# Altium schematic symbol library JST_XH_Male_2.5mm.SchLib: 5 symbols
Pins are listed as number, name and electrical type; pins without a type are passive.

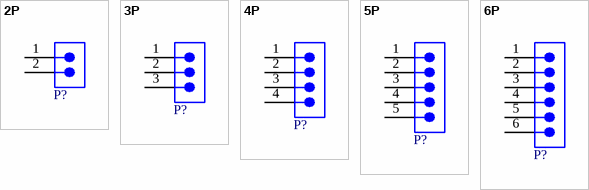
[diagram p0: symbols 2P to 6P]

## 2P
designator P?, comment 61300211121  (value not drawn)
CONNECTOR HEADER, XH SERIES, 2 POSITION, 2.50MM, Press-Fit Solder, Detent Lock, Natural; Manufacturer: Wurth Elektronik; Match Code: WR-PHD; Contact Resistance: 20mOhm; Gender: Pin Header; Pitch: 2.54mm; Rated Current: 3A; Working Voltage: 250V; Withstanding Voltage: 500V; Connector Type: Male Pin; Insulation Resistance: 1GΩ; Number of Contacts: 2; Wire/Cable Gauge: 22AWG; Manufacturer Part Number: 61300211121; Category: Board-to-Board Connectors; ComponentLink1Description: Website Link; ComponentLink1URL: https://www.we-online.com/redexpert/article/61300211121?ad; ComponentLink2Description: Datasheet Link; ComponentLink2URL: https://www.we-online.com/redexpert/spec/61300211121?ad; Mount: Through Hole; Operating Temperature Max: 105°C; Operating Temperature Min: -40°C; Packaging: Bag; Number of Pins: 2; Number of Rows: 1; Orientation: Vertical; Supplier: RS; Supplier Part Number: 8201554; RoHS: Compliant; Stock: 995; Pricing: 5=0,156, 250=0,074, 500=0,07, 1250=0,064, 2500=0,062 (EUR); China RoHS: Compliant; Color: Natural; Contact Gender: Male; Contact Material: Copper, Tin; Contact Plating: Tin; Current Rating: 3A; Depth: 5.75mm; Fastening Type: Detent; Height: 7mm; Housing Color: White; Housing Material: Polyamide; Lead Free: Lead Free; Lead Pitch: 2.5mm; Length: 7.4mm; Lifecycle Status: Production; Max Current Rating: 3A; Max Operating Temperature: 85°C; Max Voltage Rating (AC): 250V; Max Voltage Rating (DC): 250V; Min Operating Temperature: -25°C; Mounting Technology: Through Hole; Pins: 2; Number of Positions: 2; REACH SVHC: Yes; Terminal Pitch: 2.5mm; Termination: Solder; Voltage Rating: 250V; Voltage Rating (AC): 250V; Weight: 28.349523g; Width: 6.35mm; ComponentLink3URL: https://datasheet.octopart.com:443/B2B-XH-A%28LF%29%28SN%29-JST-datasheet-12510042.pdf?src-supplier=Newark; ComponentLink3Description: https://datasheet.octopart.com:443/B2B-XH-A%28LF%29%28SN%29-JST-datasheet-12510042.pdf?src-supplier=Newark; ComponentLink4URL: https://datasheet.octopart.com:443/B2B-XH-A-%28LF%29%28SN%29-JST-datasheet-41261050.pdf?src-supplier=Newark; ComponentLink4Description: https://datasheet.octopart.com:443/B2B-XH-A-%28LF%29%28SN%29-JST-datasheet-41261050.pdf?src-supplier=Newark; ComponentLink5URL: https://datasheet.octopart.com:443/B2B-XH-A%28LF%29%28SN%29-JST-datasheet-63094.pdf?src-supplier=Upverter; ComponentLink5Description: https://datasheet.octopart.com:443/B2B-XH-A%28LF%29%28SN%29-JST-datasheet-63094.pdf?src-supplier=Upverter; ComponentLink6URL: https://datasheet.octopart.com:443/B2B-XH-A%28LF%29%28SN%29-JST-datasheet-8325564.pdf?src-supplier=Burklin+Elektronik; ComponentLink6Description: https://datasheet.octopart.com:443/B2B-XH-A%28LF%29%28SN%29-JST-datasheet-8325564.pdf?src-supplier=Burklin+Elektronik; ComponentLink7URL: https://datasheet.octopart.com:443/B2B-XH-A%28LF%29%28SN%29-JST-datasheet-138896056.pdf?src-supplier=IHS; ComponentLink7Description: https://datasheet.octopart.com:443/B2B-XH-A%28LF%29%28SN%29-JST-datasheet-138896056.pdf?src-supplier=IHS; ComponentLink8URL: https://datasheet.octopart.com:443/B2B-XH-A-%28LF%29%28SN%29-JST-datasheet-62336360.pdf?src-supplier=element14+APAC; ComponentLink8Description: https://datasheet.octopart.com:443/B2B-XH-A-%28LF%29%28SN%29-JST-datasheet-62336360.pdf?src-supplier=element14+APAC; ComponentLink9URL: https://datasheet.octopart.com:443/B2B-XH-A%28LF%29%28SN%29-JST-datasheet-10026044.pdf?src-supplier=TME; ComponentLink9Description: https://datasheet.octopart.com:443/B2B-XH-A%28LF%29%28SN%29-JST-datasheet-10026044.pdf?src-supplier=TME; ComponentLink10URL: https://datasheet.octopart.com:443/B2B-XH-A%28LF%29%28SN%29-JST-datasheet-140264791.pdf?src-supplier=LKR; ComponentLink10Description: https://datasheet.octopart.com:443/B2B-XH-A%28LF%29%28SN%29-JST-datasheet-140264791.pdf?src-supplier=LKR; ComponentLink11URL: https://datasheet.octopart.com:443/B2B-XH-A%28LF%29%28SN%29-JST-datasheet-157850277.pdf?src-supplier=Amar+Radio+Corporation; ComponentLink11Description: https://datasheet.octopart.com:443/B2B-XH-A%28LF%29%28SN%29-JST-datasheet-157850277.pdf?src-supplier=Amar+Radio+Corporation
footprint JST B2B-XH-A(LF)(SN)
pins: 1, 2

## 3P
designator P?, comment 61300311121  (value not drawn)
Connector Header, XH Series, 3 Position, 2.50mm, Through Hole, Press-Fit, Solder, Natural; Manufacturer: Wurth Elektronik; Match Code: WR-PHD; Contact Resistance: 20mOhm; Gender: Pin Header; Pitch: 2.54mm; Rated Current: 3A; Working Voltage: 250V; Withstanding Voltage: 500V; Connector Type: Male Pin; Insulation Resistance: 1GΩ; Number of Contacts: 3; Wire/Cable Gauge: 22AWG; Manufacturer Part Number: 61300311121; Category: Board-to-Board Connectors; ComponentLink1Description: Website Link; ComponentLink1URL: https://www.we-online.com/redexpert/article/61300311121?ad; ComponentLink2Description: Datasheet Link; ComponentLink2URL: https://www.we-online.com/redexpert/spec/61300311121?ad; Mount: Through Hole; Operating Temperature Max: 105°C; Operating Temperature Min: -40°C; Packaging: Bag; Number of Pins: 3; Number of Rows: 1; Orientation: Vertical; Supplier: RS; Supplier Part Number: 1724888; RoHS: Compliant; Stock: 5000; Pricing: 1000=0,079 (EUR); Color: Natural; Contact Gender: Male; Contact Material: Brass; Contact Plating: Tin; Current Rating: 3A; Depth: 5.75mm; Fastening Type: Detent; Height: 7mm; Housing Color: White; Housing Material: Polyamide; Lead Free: Lead Free; Lead Pitch: 2.5mm; Length: 6.35mm; Lifecycle Status: Production; Max Current Rating: 3A; Max Operating Temperature: 85°C; Max Voltage Rating (AC): 250V; Max Voltage Rating (DC): 250V; Min Operating Temperature: -25°C; Mounting Technology: Through Hole; Pins: 3; Number of Positions: 3; REACH SVHC: Yes; Terminal Pitch: 2.5mm; Termination: Press-Fit; Voltage Rating: 250V; Voltage Rating (AC): 250V; Weight: 28.349523g; Width: 6.35mm; ComponentLink3URL: https://datasheet.octopart.com:443/B3B-XH-A%28LF%29%28SN%29-JST-datasheet-140264791.pdf?src-supplier=LKR; ComponentLink3Description: https://datasheet.octopart.com:443/B3B-XH-A%28LF%29%28SN%29-JST-datasheet-140264791.pdf?src-supplier=LKR; ComponentLink4URL: https://datasheet.octopart.com:443/B3B-XH-A%28LF%29%28SN%29-JST-datasheet-8325564.pdf?src-supplier=Burklin+Elektronik; ComponentLink4Description: https://datasheet.octopart.com:443/B3B-XH-A%28LF%29%28SN%29-JST-datasheet-8325564.pdf?src-supplier=Burklin+Elektronik; ComponentLink5URL: https://datasheet.octopart.com:443/B3B-XH-A%28LF%29%28SN%29-JST-datasheet-12510042.pdf?src-supplier=Newark; ComponentLink5Description: https://datasheet.octopart.com:443/B3B-XH-A%28LF%29%28SN%29-JST-datasheet-12510042.pdf?src-supplier=Newark; ComponentLink6URL: https://datasheet.octopart.com:443/B3B-XH-A-%28LF%29%28SN%29-JST-datasheet-41261050.pdf?src-supplier=Newark; ComponentLink6Description: https://datasheet.octopart.com:443/B3B-XH-A-%28LF%29%28SN%29-JST-datasheet-41261050.pdf?src-supplier=Newark; ComponentLink7URL: https://datasheet.octopart.com:443/B3B-XH-A%28LF%29%28SN%29-JST-datasheet-157850277.pdf?src-supplier=Amar+Radio+Corporation; ComponentLink7Description: https://datasheet.octopart.com:443/B3B-XH-A%28LF%29%28SN%29-JST-datasheet-157850277.pdf?src-supplier=Amar+Radio+Corporation; ComponentLink8URL: https://datasheet.octopart.com:443/B3B-XH-A%28LF%29%28SN%29-JST-datasheet-138896056.pdf?src-supplier=IHS; ComponentLink8Description: https://datasheet.octopart.com:443/B3B-XH-A%28LF%29%28SN%29-JST-datasheet-138896056.pdf?src-supplier=IHS; ComponentLink9URL: https://datasheet.octopart.com:443/B3B-XH-A%28LF%29%28SN%29-JST-datasheet-63094.pdf?src-supplier=element14+APAC; ComponentLink9Description: https://datasheet.octopart.com:443/B3B-XH-A%28LF%29%28SN%29-JST-datasheet-63094.pdf?src-supplier=element14+APAC; ComponentLink10URL: https://datasheet.octopart.com:443/B3B-XH-A-%28LF%29%28SN%29-JST-datasheet-62330224.pdf?src-supplier=element14+APAC; ComponentLink10Description: https://datasheet.octopart.com:443/B3B-XH-A-%28LF%29%28SN%29-JST-datasheet-62330224.pdf?src-supplier=element14+APAC; ComponentLink11URL: https://datasheet.octopart.com:443/B3B-XH-A-%28LF%29%28SN%29-JST-datasheet-10026044.pdf?src-supplier=TME; ComponentLink11Description: https://datasheet.octopart.com:443/B3B-XH-A-%28LF%29%28SN%29-JST-datasheet-10026044.pdf?src-supplier=TME
footprint JST B3B-XH-A(LF)(SN)
pins: 1, 2, 3

## 4P
designator P?, comment 61300411121  (value not drawn)
Conn Shrouded Header (4 Sides) HDR 4 POS 2.5mm Solder ST Top Entry Thru-Hole Box; Manufacturer: Wurth Elektronik; Match Code: WR-PHD; Contact Resistance: 20mOhm; Gender: Pin Header; Pitch: 2.54mm; Rated Current: 3A; Working Voltage: 250V; Withstanding Voltage: 500V; Connector Type: Male Pin; Insulation Resistance: 1GΩ; Number of Contacts: 4; Wire/Cable Gauge: 22AWG; Manufacturer Part Number: 61300411121; Category: Board-to-Board Connectors; ComponentLink1Description: Website Link; ComponentLink1URL: https://www.we-online.com/redexpert/article/61300411121?ad; ComponentLink2Description: Datasheet Link; ComponentLink2URL: https://www.we-online.com/redexpert/spec/61300411121?ad; Mount: Through Hole; Operating Temperature Max: 105°C; Operating Temperature Min: -40°C; Packaging: Bag; Number of Pins: 4; Number of Rows: 1; Orientation: Vertical; Supplier: RS; Supplier Part Number: 8201551; RoHS: Compliant; Stock: 4260; Pricing: 5=0,212, 125=0,076, 500=0,072, 1250=0,068, 2500=0,064 (EUR); Color: Natural; Contact Gender: Male; Contact Material: Brass; Contact Plating: Tin; Current Rating: 3A; Depth: 5.75mm; Height: 7mm; Housing Color: White; Housing Material: Polyamide; Lead Free: Lead Free; Lead Pitch: 2.5mm; Length: 12.4mm; Lifecycle Status: Production; Material: Polyamide; Max Current Rating: 3A; Max Operating Temperature: 85°C; Max Voltage Rating (AC): 250V; Max Voltage Rating (DC): 250V; Min Operating Temperature: -25°C; Mounting Technology: Through Hole; Pins: 4; Number of Positions: 4; REACH SVHC: Yes; Terminal Pitch: 2.5mm; Termination: Press-Fit; Voltage Rating: 250V; Voltage Rating (AC): 250V; Weight: 28.349523g; Width: 12.7mm; ComponentLink3URL: https://datasheet.octopart.com:443/B4B-XH-A%28LF%29%28SN%29-JST-datasheet-12510042.pdf?src-supplier=Upverter; ComponentLink3Description: https://datasheet.octopart.com:443/B4B-XH-A%28LF%29%28SN%29-JST-datasheet-12510042.pdf?src-supplier=Upverter; ComponentLink4URL: https://datasheet.octopart.com:443/B4B-XH-A%28LF%29%28SN%29-JST-datasheet-8325564.pdf?src-supplier=Upverter; ComponentLink4Description: https://datasheet.octopart.com:443/B4B-XH-A%28LF%29%28SN%29-JST-datasheet-8325564.pdf?src-supplier=Upverter; ComponentLink5URL: https://datasheet.octopart.com:443/B4B-XH-A%28LF%29%28SN%29-JST-datasheet-138896056.pdf?src-supplier=IHS; ComponentLink5Description: https://datasheet.octopart.com:443/B4B-XH-A%28LF%29%28SN%29-JST-datasheet-138896056.pdf?src-supplier=IHS; ComponentLink6URL: https://datasheet.octopart.com:443/B4B-XH-A%28LF%29%28SN%29-JST-datasheet-140264791.pdf?src-supplier=LKR; ComponentLink6Description: https://datasheet.octopart.com:443/B4B-XH-A%28LF%29%28SN%29-JST-datasheet-140264791.pdf?src-supplier=LKR; ComponentLink7URL: https://datasheet.octopart.com:443/B4B-XH-A%28LF%29%28SN%29-JST-datasheet-10026044.pdf?src-supplier=Future+Electronics; ComponentLink7Description: https://datasheet.octopart.com:443/B4B-XH-A%28LF%29%28SN%29-JST-datasheet-10026044.pdf?src-supplier=Future+Electronics; ComponentLink8URL: https://datasheet.octopart.com:443/B4B-XH-A%28LF%29%28SN%29-JST-datasheet-63094.pdf?src-supplier=Future+Electronics; ComponentLink8Description: https://datasheet.octopart.com:443/B4B-XH-A%28LF%29%28SN%29-JST-datasheet-63094.pdf?src-supplier=Future+Electronics
pins: 1, 2, 3, 4

## 5P
designator P?, comment 61300511121  (value not drawn)
Connector Header, XH Series, 5 Position, 2.50mm, Through Hole, Press-Fit, Solder, Natural; Manufacturer: Wurth Elektronik; Match Code: WR-PHD; Contact Resistance: 20mOhm; Gender: Pin Header; Pitch: 2.54mm; Rated Current: 3A; Working Voltage: 250V; Withstanding Voltage: 500V; Connector Type: Male Pin; Insulation Resistance: 1GΩ; Number of Contacts: 5; Wire/Cable Gauge: 22AWG; Manufacturer Part Number: 61300511121; Category: Board-to-Board Connectors; ComponentLink1Description: Website Link; ComponentLink1URL: https://www.we-online.com/redexpert/article/61300511121?ad; ComponentLink2Description: Datasheet Link; ComponentLink2URL: https://www.we-online.com/redexpert/spec/61300511121?ad; Mount: Through Hole; Operating Temperature Max: 105°C; Operating Temperature Min: -40°C; Packaging: Bag; Number of Pins: 5; Number of Rows: 1; Orientation: Vertical; Supplier: RS; Supplier Part Number: 8201560P; RoHS: Compliant; Stock: 5005; Pricing: 125=0,098, 500=0,092, 1250=0,088, 2500=0,08 (EUR); Color: Natural; Contact Gender: Male; Contact Material: Brass; Contact Plating: Copper, Lead, Tin; Current Rating: 3A; Depth: 5.75mm; Fastening Type: Detent; Height: 13.208mm; Housing Color: White; Housing Material: Polyamide; Lead Free: Lead Free; Lead Pitch: 2.5mm; Length: 14.9mm; Lifecycle Status: Production; Max Current Rating: 3A; Max Operating Temperature: 85°C; Max Voltage Rating (AC): 250V; Min Operating Temperature: -25°C; Mounting Technology: Through Hole; Pins: 5; Number of Positions: 5; REACH SVHC: Yes; Terminal Pitch: 2.5mm; Termination: Press-Fit, Solder; Voltage Rating: 250V; Voltage Rating (AC): 250V; Weight: 28.349523g; Width: 13.208mm; ComponentLink3URL: https://datasheet.octopart.com:443/B5B-XH-A%28LF%29%28SN%29-JST-datasheet-63094.pdf?src-supplier=Upverter; ComponentLink3Description: https://datasheet.octopart.com:443/B5B-XH-A%28LF%29%28SN%29-JST-datasheet-63094.pdf?src-supplier=Upverter; ComponentLink4URL: https://datasheet.octopart.com:443/B5B-XH-A%28LF%29%28SN%29-JST-datasheet-138896056.pdf?src-supplier=IHS; ComponentLink4Description: https://datasheet.octopart.com:443/B5B-XH-A%28LF%29%28SN%29-JST-datasheet-138896056.pdf?src-supplier=IHS; ComponentLink5URL: https://datasheet.octopart.com:443/B5B-XH-A%28LF%29%28SN%29-JST-datasheet-140264791.pdf?src-supplier=LKR; ComponentLink5Description: https://datasheet.octopart.com:443/B5B-XH-A%28LF%29%28SN%29-JST-datasheet-140264791.pdf?src-supplier=LKR; ComponentLink6URL: https://datasheet.octopart.com:443/B5B-XH-A%28LF%29%28SN%29-JST-datasheet-12510042.pdf?src-supplier=Future+Electronics; ComponentLink6Description: https://datasheet.octopart.com:443/B5B-XH-A%28LF%29%28SN%29-JST-datasheet-12510042.pdf?src-supplier=Future+Electronics; ComponentLink7URL: https://datasheet.octopart.com:443/B5B-XH-A%28LF%29%28SN%29-JST-datasheet-10026044.pdf?src-supplier=Future+Electronics; ComponentLink7Description: https://datasheet.octopart.com:443/B5B-XH-A%28LF%29%28SN%29-JST-datasheet-10026044.pdf?src-supplier=Future+Electronics; ComponentLink8URL: https://datasheet.octopart.com:443/B5B-XH-A%28LF%29%28SN%29-JST-datasheet-8325564.pdf?src-supplier=Future+Electronics; ComponentLink8Description: https://datasheet.octopart.com:443/B5B-XH-A%28LF%29%28SN%29-JST-datasheet-8325564.pdf?src-supplier=Future+Electronics; ComponentLink9URL: https://datasheet.octopart.com:443/B5B-XH-A%28LF%29%28SN%29-JST-datasheet-157850277.pdf?src-supplier=Amar+Radio+Corporation; ComponentLink9Description: https://datasheet.octopart.com:443/B5B-XH-A%28LF%29%28SN%29-JST-datasheet-157850277.pdf?src-supplier=Amar+Radio+Corporation
pins: 1, 2, 3, 4, 5

## 6P
designator P?, comment 61300611121  (value not drawn)
Connector Header, XH Series, 6 Position, 2.50mm, Through Hole, Press-Fit, Solder, Natural; Manufacturer: Wurth Elektronik; Match Code: WR-PHD; Contact Resistance: 20mOhm; Gender: Pin Header; Pitch: 2.54mm; Rated Current: 3A; Working Voltage: 250V; Withstanding Voltage: 500V; Connector Type: Male Pin; Insulation Resistance: 1GΩ; Number of Contacts: 6; Wire/Cable Gauge: 22AWG; Manufacturer Part Number: 61300611121; Category: Board-to-Board Connectors; ComponentLink1Description: Website Link; ComponentLink1URL: https://www.we-online.com/redexpert/article/61300611121?ad; ComponentLink2Description: Datasheet Link; ComponentLink2URL: https://www.we-online.com/redexpert/spec/61300611121?ad; Mount: Through Hole; Operating Temperature Max: 105°C; Operating Temperature Min: -40°C; Packaging: Bag; Number of Pins: 6; Number of Rows: 1; Orientation: Vertical; Supplier: RS; Supplier Part Number: 8201563P; RoHS: Compliant; Stock: 4280; Pricing: 125=0,12, 500=0,112, 1250=0,104, 2500=0,094 (EUR); Color: Natural; Contact Gender: Male; Contact Material: Brass; Contact Plating: Tin; Current Rating: 3A; Depth: 5.75mm; Height: 7mm; Housing Material: Polyamide; Lead Free: Lead Free; Lead Pitch: 2.5mm; Length: 17.4mm; Lifecycle Status: Production; Max Current Rating: 3A; Max Operating Temperature: 85°C; Max Voltage Rating (AC): 250V; Max Voltage Rating (DC): 250V; Min Operating Temperature: -25°C; Mounting Technology: Through Hole; Pins: 6; Number of Positions: 6; REACH SVHC: Yes; Schedule B: 8536694040; Terminal Pitch: 2.5mm; Termination: Press-Fit; Voltage Rating: 250V; Voltage Rating (AC): 250V; Weight: 28.349523g; Width: 12.7mm; ComponentLink3URL: https://datasheet.octopart.com:443/B6B-XH-A%28LF%29%28SN%29-JST-datasheet-140264791.pdf?src-supplier=Upverter; ComponentLink3Description: https://datasheet.octopart.com:443/B6B-XH-A%28LF%29%28SN%29-JST-datasheet-140264791.pdf?src-supplier=Upverter; ComponentLink4URL: https://datasheet.octopart.com:443/B6B-XH-A%28LF%29%28SN%29-JST-datasheet-138896056.pdf?src-supplier=IHS; ComponentLink4Description: https://datasheet.octopart.com:443/B6B-XH-A%28LF%29%28SN%29-JST-datasheet-138896056.pdf?src-supplier=IHS; ComponentLink5URL: https://datasheet.octopart.com:443/B6B-XH-A%28LF%29%28SN%29-JST-datasheet-63094.pdf?src-supplier=element14+APAC; ComponentLink5Description: https://datasheet.octopart.com:443/B6B-XH-A%28LF%29%28SN%29-JST-datasheet-63094.pdf?src-supplier=element14+APAC; ComponentLink6URL: https://datasheet.octopart.com:443/B6B-XH-A-%28LF%29%28SN%29-JST-datasheet-62330224.pdf?src-supplier=element14+APAC; ComponentLink6Description: https://datasheet.octopart.com:443/B6B-XH-A-%28LF%29%28SN%29-JST-datasheet-62330224.pdf?src-supplier=element14+APAC; ComponentLink7URL: https://datasheet.octopart.com:443/B6B-XH-A%28LF%29%28SN%29-JST-datasheet-12510042.pdf?src-supplier=Newark; ComponentLink7Description: https://datasheet.octopart.com:443/B6B-XH-A%28LF%29%28SN%29-JST-datasheet-12510042.pdf?src-supplier=Newark; ComponentLink8URL: https://datasheet.octopart.com:443/B6B-XH-A%28LF%29%28SN%29-JST-datasheet-8325564.pdf?src-supplier=Newark; ComponentLink8Description: https://datasheet.octopart.com:443/B6B-XH-A%28LF%29%28SN%29-JST-datasheet-8325564.pdf?src-supplier=Newark; ComponentLink9URL: https://datasheet.octopart.com:443/B6B-XH-A-%28LF%29%28SN%29-JST-datasheet-41261050.pdf?src-supplier=Newark; ComponentLink9Description: https://datasheet.octopart.com:443/B6B-XH-A-%28LF%29%28SN%29-JST-datasheet-41261050.pdf?src-supplier=Newark; ComponentLink10URL: https://datasheet.octopart.com:443/B6B-XH-A%28LF%29%28SN%29-JST-datasheet-10026044.pdf?src-supplier=Future+Electronics; ComponentLink10Description: https://datasheet.octopart.com:443/B6B-XH-A%28LF%29%28SN%29-JST-datasheet-10026044.pdf?src-supplier=Future+Electronics; ComponentLink11URL: https://datasheet.octopart.com:443/B6B-XH-A%28LF%29%28SN%29-JST-datasheet-157850277.pdf?src-supplier=Amar+Radio+Corporation; ComponentLink11Description: https://datasheet.octopart.com:443/B6B-XH-A%28LF%29%28SN%29-JST-datasheet-157850277.pdf?src-supplier=Amar+Radio+Corporation
pins: 1, 2, 3, 4, 5, 6